# EAGLE library part PCM2706 (library toslink)
STEREO AUDIO DAC WITH USB INTERFACE, SINGLE-ENDED HEADPHONE OUTPUT AND S/PDIF OUTPUT
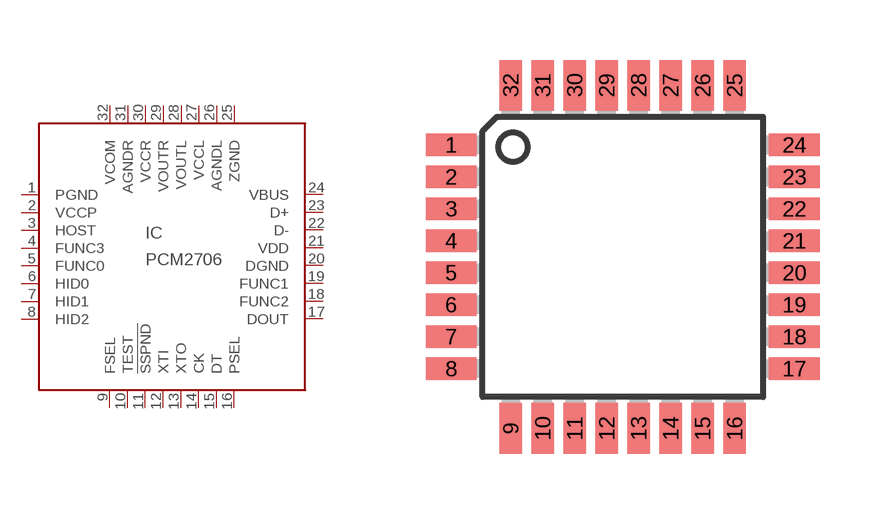
[diagram p7: symbol with the pads of TQFP32-08; footprint TQFP32-08]

Designator prefix IC

## PCM2706  [TQFP32-08]
1  PGND  pwr
2  VCCP  pwr
3  HOST  in
4  FUNC3  in
5  FUNC0
6  HID0  in
7  HID1  in
8  HID2  in
9  FSEL  in
10  TEST  in
11  !SSPND  out
12  XTI  in
13  XTO  out
14  CK  out
15  DT
16  PSEL  in
17  DOUT  out
18  FUNC2
19  FUNC1
20  DGND  pwr
21  VDD  pwr
22  D-
23  D+
24  VBUS  pwr
25  ZGND  pwr
26  AGNDL  pwr
27  VCCL  pwr
28  VOUTL  out
29  VOUTR  out
30  VCCR  pwr
31  AGNDR  pwr
32  VCOM  pwr

## Footprint TQFP32-08 (pad centres in mm)
Thin Plasic Quad Flat Package Grid 0.8 mm
smd 1.27 x 0.559: 1 -4.293,2.8; 2 -4.293,2; 3 -4.293,1.2; 4 -4.293,0.4; 5 -4.293,-0.4; 6 -4.293,-1.2; 7 -4.293,-2; 8 -4.293,-2.8; 17 4.293,-2.8; 18 4.293,-2; 19 4.293,-1.2; 20 4.293,-0.4; 21 4.293,0.4; 22 4.293,1.2; 23 4.293,2; 24 4.293,2.8
smd 0.559 x 1.27: 9 -2.8,-4.293; 10 -2,-4.293; 11 -1.2,-4.293; 12 -0.4,-4.293; 13 0.4,-4.293; 14 1.2,-4.293; 15 2,-4.293; 16 2.8,-4.293; 25 2.8,4.293; 26 2,4.293; 27 1.2,4.293; 28 0.4,4.293; 29 -0.4,4.293; 30 -1.2,4.293; 31 -2,4.293; 32 -2.8,4.293